# EAGLE library part WE-DS_240617113 (library Wurth_Elektronik_EMC_COMPONENTS_rev16c)
WE-DS D-SUB-Filter Connectors Bent 90° Characteristics Standard type filtered with 1000 pF High attenuation of more than 40 dB @ 180 MHz Low size: 6.3 mm Rated voltage: 125 VDC Rated current @ 20 ºC: 5 A Withstand voltage: 250 VRMS Insulation resistance: min. 1000 MΩ Operating temperature: –55 ºC to +125 ºC Applications Filtering of interfaces External connection to -printer -sensor -display <http://katalog.we-online.de/media/thumbs2/eisos/thb_AbsDSubFilter_SMD_pf2.jpg> Details see: http://katalog.we-online.de/en/pbs/D-SUB-Filter Bent 90° <http://katalog.we-online.de/en/pbs/Filter_SMD?sid=29b915c42a> Created on 2015-05-04 2015 (C) Wurth Elektronik
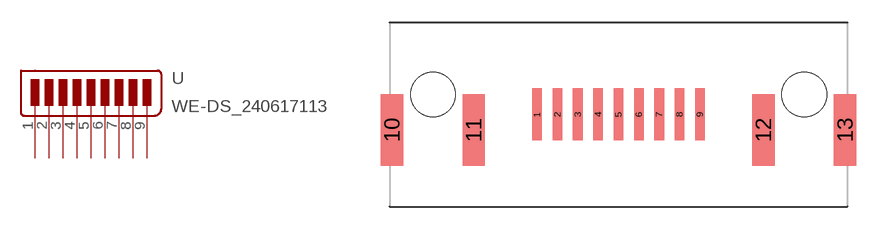
[diagram p213: symbol with the pads of WE-DS_240617113; footprint WE-DS_240617113]

Designator prefix -

## WE-DS_240617113  [WE-DS_240617113]
1  1
2  2
3  3
4  4
5  5
6  6
7  7
8  8
9  9

## Footprint WE-DS_240617113 (pad centres in mm)
smd 0.65 x 3.5: 1 -5.48,0; 2 -4.11,0; 3 -2.74,0; 4 -1.37,0; 5 0,0; 6 1.37,0; 7 2.74,0; 8 4.11,0; 9 5.48,0
smd 1.5 x 4.8: 10 -15.25,-1.05; 11 -9.75,-1.05; 12 9.75,-1.05; 13 15.25,-1.05
hole 3 at -12.5,1.35
hole 3 at 12.5,1.35